# Altium footprint library Connector_JAE.PcbLib: 46 footprints (part 2 of 3)
Each footprint in its own frame and in the unit in brackets; x right, y up, seen from the top. Pads: shape width x height; smd on the part's side, far side on the other; paste and mask are expansions set on the pad; w line width, h text height; cw(c..) or ccw(c..) is an arc to the next point about the centre after c.
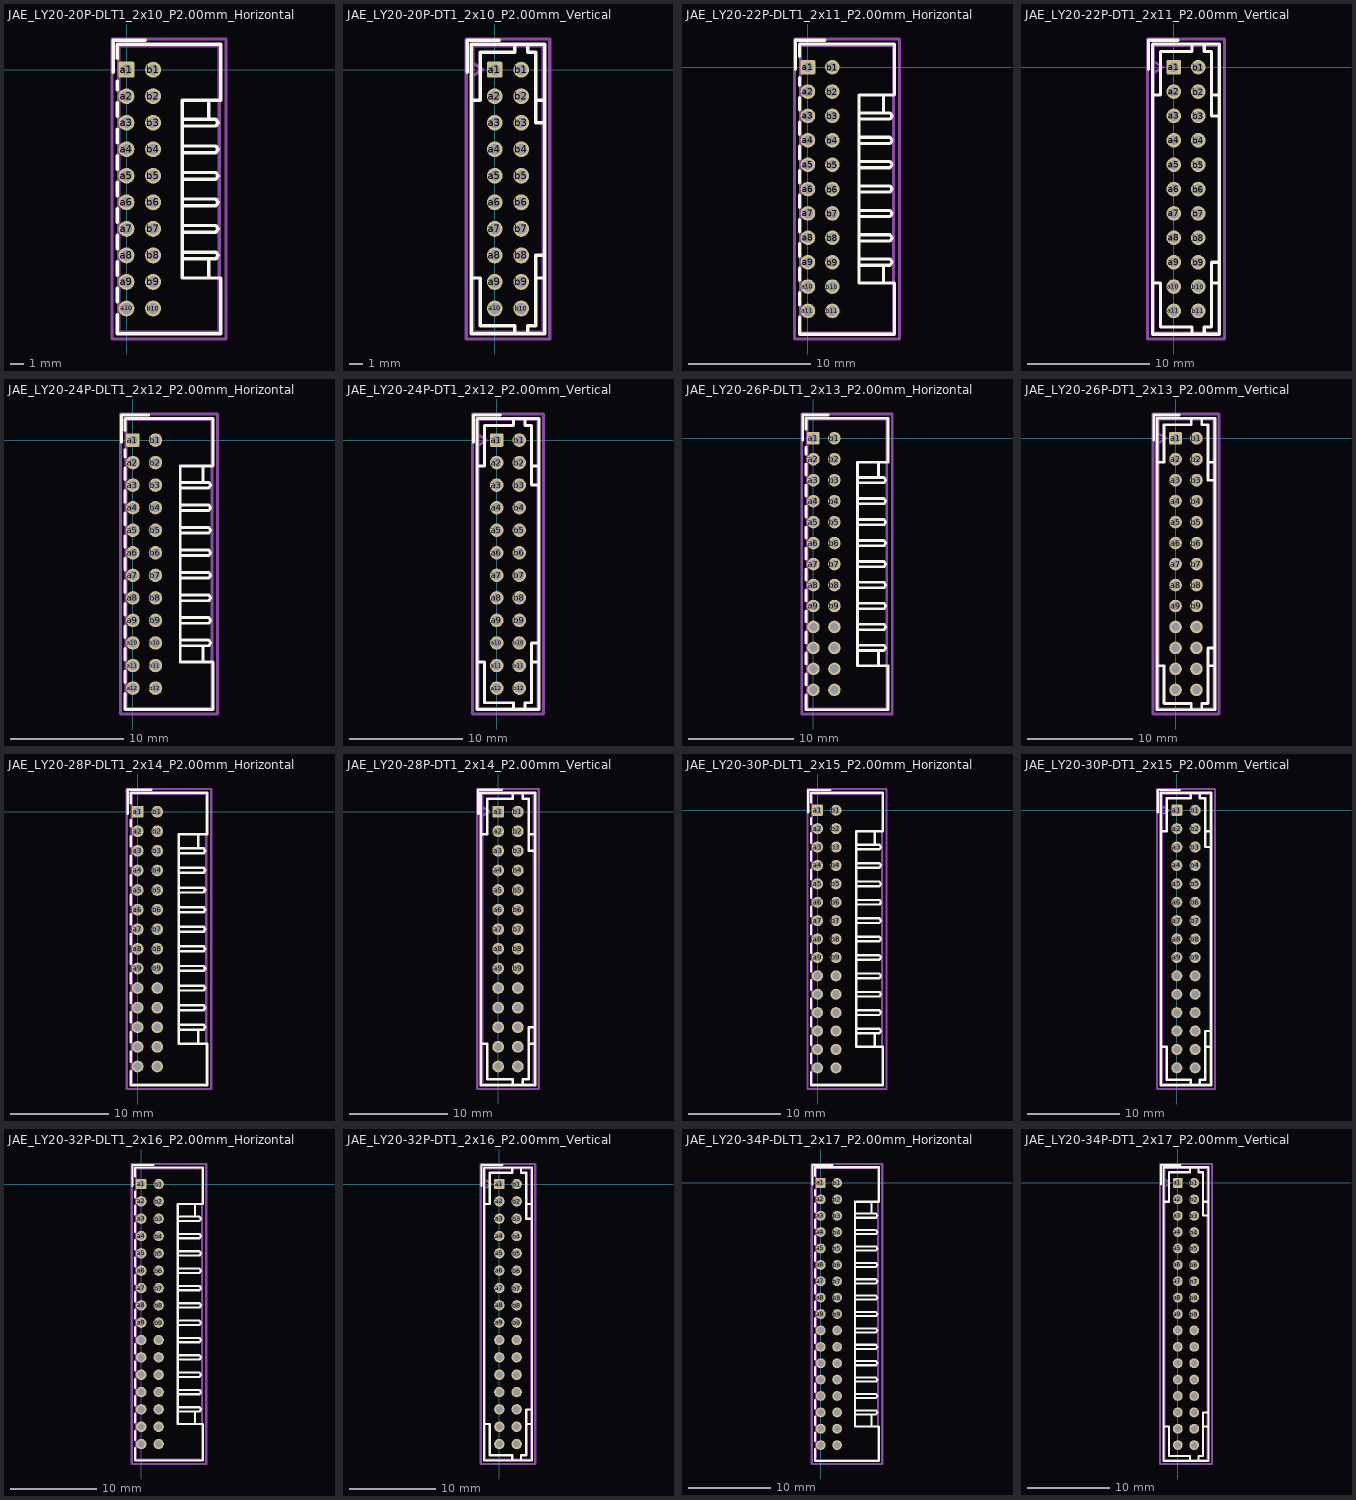
[diagram p1: the footprints below, top view; thin cyan lines are the x and y axes]

## JAE_LY20-20P-DLT1_2x10_P2.00mm_Horizontal [mm]
pads (20):
  rrect21% 1.2x1.2 hole 0.8: a1(0,0)
  round 1.2 hole 0.8: a2(0,-2) a3(0,-4) a4(0,-6) a5(0,-8) a6(0,-10) a7(0,-12) a8(0,-14) a9(0,-16) a10(0,-18) b1(2,0) b2(2,-2) b3(2,-4) b4(2,-6) b5(2,-8) b6(2,-10) b7(2,-12) b8(2,-14) b9(2,-16) b10(2,-18)
F.SilkS:
  lines w0.254: -1.01,-0.2 -1.01,2.21 1.4,2.21 ; -0.71,-18.485 -0.71,-19.91 7.11,-19.91 7.11,-15.7 4.2,-15.7 4.2,-9 4.2,-2.3 7.11,-2.3 7.11,1.91 -0.71,1.91 -0.71,0.86 ; -0.71,-17.515 -0.71,-16.485 ; -0.71,-15.515 -0.71,-14.485 ; -0.71,-13.515 -0.71,-12.485 ; -0.71,-11.515 -0.71,-10.485 ; -0.71,-9.515 -0.71,-8.485 ; -0.71,-7.515 -0.71,-6.485 ; -0.71,-5.515 -0.71,-4.485 ; -0.71,-3.515 -0.71,-2.485 ; -0.71,-1.515 -0.71,-0.86 ; 4.2,-14.25 6.733,-14.25 6.9,-14 6.733,-13.75 4.2,-13.75 ; 4.2,-12.25 6.733,-12.25 6.9,-12 6.733,-11.75 4.2,-11.75 ; 4.2,-10.25 6.733,-10.25 6.9,-10 6.733,-9.75 4.2,-9.75 ; 4.2,-8.25 6.733,-8.25 6.9,-8 6.733,-7.75 4.2,-7.75 ; 4.2,-6.25 6.733,-6.25 6.9,-6 6.733,-5.75 4.2,-5.75 ; 4.2,-4.25 6.733,-4.25 6.9,-4 6.733,-3.75 4.2,-3.75 ; 6.2,-15.7 6.2,-14.25 ; 6.2,-3.75 6.2,-2.3
Top Assembly:
  lines w0.254: -0.6,-0.5 0.107,0 -0.6,0.5 ; -0.6,-19.8 7,-19.8 7,1.8 -0.6,1.8 -0.6,-19.8
  text "'.Designator'" at -0.847,-19.94 h1
Top Courtyard:
  lines w0.254: -1.1,-20.3 7.5,-20.3 7.5,2.31 -1.1,2.31 -1.1,-20.3
Top Designator:
  text ".Designator" at -4.418,-9.503 h1.52

## JAE_LY20-20P-DT1_2x10_P2.00mm_Vertical [mm]
pads (20):
  rrect21% 1.2x1.2 hole 0.8: a1(0,0)
  round 1.2 hole 0.8: a2(0,-2) a3(0,-4) a4(0,-6) a5(0,-8) a6(0,-10) a7(0,-12) a8(0,-14) a9(0,-16) a10(0,-18) b1(2,0) b2(2,-2) b3(2,-4) b4(2,-6) b5(2,-8) b6(2,-10) b7(2,-12) b8(2,-14) b9(2,-16) b10(2,-18)
F.SilkS:
  lines w0.254: -2.06,-0.2 -2.06,2.21 0.35,2.21 ; -1.76,-15.7 -1.1,-15.7 -1.1,-19.3 1.5,-19.3 1.5,-19.91 ; -1.76,-2.3 -1.1,-2.3 -1.1,1.3 1.5,1.3 1.5,1.91 ; 2.5,-19.91 2.5,-19.3 3.1,-19.3 3.1,-14 3.76,-14 ; 2.5,1.91 2.5,1.3 3.1,1.3 3.1,-4 3.76,-4 ; 3.1,-15.7 3.76,-15.7 ; 3.1,-2.3 3.76,-2.3 ; -1.76,-19.91 3.76,-19.91 3.76,1.91 -1.76,1.91 -1.76,-19.91
Top Assembly:
  lines w0.254: -1.65,-0.5 -0.943,0 -1.65,0.5 ; -1.65,-19.8 3.65,-19.8 3.65,1.8 -1.65,1.8 -1.65,-19.8
  text "'.Designator'" at 3.79,-13.047 h1
Top Courtyard:
  lines w0.254: -2.15,-20.3 4.15,-20.3 4.15,2.31 -2.15,2.31 -2.15,-20.3
Top Designator:
  text ".Designator" at -6.618,-9.503 h1.52

## JAE_LY20-22P-DLT1_2x11_P2.00mm_Horizontal [mm]
pads (22):
  rrect21% 1.2x1.2 hole 0.8: a1(0,0)
  round 1.2 hole 0.8: a2(0,-2) a3(0,-4) a4(0,-6) a5(0,-8) a6(0,-10) a7(0,-12) a8(0,-14) a9(0,-16) a10(0,-18) a11(0,-20) b1(2,0) b2(2,-2) b3(2,-4) b4(2,-6) b5(2,-8) b6(2,-10) b7(2,-12) b8(2,-14) b9(2,-16) b10(2,-18) b11(2,-20)
F.SilkS:
  lines w0.254: -1.01,-0.2 -1.01,2.21 1.4,2.21 ; -0.71,-20.485 -0.71,-21.91 7.11,-21.91 7.11,-17.7 4.2,-17.7 4.2,-10 4.2,-2.3 7.11,-2.3 7.11,1.91 -0.71,1.91 -0.71,0.86 ; -0.71,-19.515 -0.71,-18.485 ; -0.71,-17.515 -0.71,-16.485 ; -0.71,-15.515 -0.71,-14.485 ; -0.71,-13.515 -0.71,-12.485 ; -0.71,-11.515 -0.71,-10.485 ; -0.71,-9.515 -0.71,-8.485 ; -0.71,-7.515 -0.71,-6.485 ; -0.71,-5.515 -0.71,-4.485 ; -0.71,-3.515 -0.71,-2.485 ; -0.71,-1.515 -0.71,-0.86 ; 4.2,-16.25 6.733,-16.25 6.9,-16 6.733,-15.75 4.2,-15.75 ; 4.2,-14.25 6.733,-14.25 6.9,-14 6.733,-13.75 4.2,-13.75 ; 4.2,-12.25 6.733,-12.25 6.9,-12 6.733,-11.75 4.2,-11.75 ; 4.2,-10.25 6.733,-10.25 6.9,-10 6.733,-9.75 4.2,-9.75 ; 4.2,-8.25 6.733,-8.25 6.9,-8 6.733,-7.75 4.2,-7.75 ; 4.2,-6.25 6.733,-6.25 6.9,-6 6.733,-5.75 4.2,-5.75 ; 4.2,-4.25 6.733,-4.25 6.9,-4 6.733,-3.75 4.2,-3.75 ; 6.2,-17.7 6.2,-16.25 ; 6.2,-3.75 6.2,-2.3
Top Assembly:
  lines w0.254: -0.6,-0.5 0.107,0 -0.6,0.5 ; -0.6,-21.8 7,-21.8 7,1.8 -0.6,1.8 -0.6,-21.8
  text "'.Designator'" at -0.847,-21.94 h1
Top Courtyard:
  lines w0.254: -1.1,-22.3 7.5,-22.3 7.5,2.31 -1.1,2.31 -1.1,-22.3
Top Designator:
  text ".Designator" at -4.418,-10.503 h1.52

## JAE_LY20-22P-DT1_2x11_P2.00mm_Vertical [mm]
pads (22):
  rrect21% 1.2x1.2 hole 0.8: a1(0,0)
  round 1.2 hole 0.8: a2(0,-2) a3(0,-4) a4(0,-6) a5(0,-8) a6(0,-10) a7(0,-12) a8(0,-14) a9(0,-16) a10(0,-18) a11(0,-20) b1(2,0) b2(2,-2) b3(2,-4) b4(2,-6) b5(2,-8) b6(2,-10) b7(2,-12) b8(2,-14) b9(2,-16) b10(2,-18) b11(2,-20)
F.SilkS:
  lines w0.254: -2.06,-0.2 -2.06,2.21 0.35,2.21 ; -1.76,-17.7 -1.1,-17.7 -1.1,-21.3 1.5,-21.3 1.5,-21.91 ; -1.76,-2.3 -1.1,-2.3 -1.1,1.3 1.5,1.3 1.5,1.91 ; 2.5,-21.91 2.5,-21.3 3.1,-21.3 3.1,-16 3.76,-16 ; 2.5,1.91 2.5,1.3 3.1,1.3 3.1,-4 3.76,-4 ; 3.1,-17.7 3.76,-17.7 ; 3.1,-2.3 3.76,-2.3 ; -1.76,-21.91 3.76,-21.91 3.76,1.91 -1.76,1.91 -1.76,-21.91
Top Assembly:
  lines w0.254: -1.65,-0.5 -0.943,0 -1.65,0.5 ; -1.65,-21.8 3.65,-21.8 3.65,1.8 -1.65,1.8 -1.65,-21.8
  text "'.Designator'" at 3.79,-14.047 h1
Top Courtyard:
  lines w0.254: -2.15,-22.3 4.15,-22.3 4.15,2.31 -2.15,2.31 -2.15,-22.3
Top Designator:
  text ".Designator" at -6.618,-10.503 h1.52

## JAE_LY20-24P-DLT1_2x12_P2.00mm_Horizontal [mm]
pads (24):
  rrect21% 1.2x1.2 hole 0.8: a1(0,0)
  round 1.2 hole 0.8: a2(0,-2) a3(0,-4) a4(0,-6) a5(0,-8) a6(0,-10) a7(0,-12) a8(0,-14) a9(0,-16) a10(0,-18) a11(0,-20) a12(0,-22) b1(2,0) b2(2,-2) b3(2,-4) b4(2,-6) b5(2,-8) b6(2,-10) b7(2,-12) b8(2,-14) b9(2,-16) b10(2,-18) b11(2,-20) b12(2,-22)
F.SilkS:
  lines w0.254: -1.01,-0.2 -1.01,2.21 1.4,2.21 ; -0.71,-22.485 -0.71,-23.91 7.11,-23.91 7.11,-19.7 4.2,-19.7 4.2,-11 4.2,-2.3 7.11,-2.3 7.11,1.91 -0.71,1.91 -0.71,0.86 ; -0.71,-21.515 -0.71,-20.485 ; -0.71,-19.515 -0.71,-18.485 ; -0.71,-17.515 -0.71,-16.485 ; -0.71,-15.515 -0.71,-14.485 ; -0.71,-13.515 -0.71,-12.485 ; -0.71,-11.515 -0.71,-10.485 ; -0.71,-9.515 -0.71,-8.485 ; -0.71,-7.515 -0.71,-6.485 ; -0.71,-5.515 -0.71,-4.485 ; -0.71,-3.515 -0.71,-2.485 ; -0.71,-1.515 -0.71,-0.86 ; 4.2,-18.25 6.733,-18.25 6.9,-18 6.733,-17.75 4.2,-17.75 ; 4.2,-16.25 6.733,-16.25 6.9,-16 6.733,-15.75 4.2,-15.75 ; 4.2,-14.25 6.733,-14.25 6.9,-14 6.733,-13.75 4.2,-13.75 ; 4.2,-12.25 6.733,-12.25 6.9,-12 6.733,-11.75 4.2,-11.75 ; 4.2,-10.25 6.733,-10.25 6.9,-10 6.733,-9.75 4.2,-9.75 ; 4.2,-8.25 6.733,-8.25 6.9,-8 6.733,-7.75 4.2,-7.75 ; 4.2,-6.25 6.733,-6.25 6.9,-6 6.733,-5.75 4.2,-5.75 ; 4.2,-4.25 6.733,-4.25 6.9,-4 6.733,-3.75 4.2,-3.75 ; 6.2,-19.7 6.2,-18.25 ; 6.2,-3.75 6.2,-2.3
Top Assembly:
  lines w0.254: -0.6,-0.5 0.107,0 -0.6,0.5 ; -0.6,-23.8 7,-23.8 7,1.8 -0.6,1.8 -0.6,-23.8
  text "'.Designator'" at -0.847,-23.94 h1
Top Courtyard:
  lines w0.254: -1.1,-24.3 7.5,-24.3 7.5,2.31 -1.1,2.31 -1.1,-24.3
Top Designator:
  text ".Designator" at -4.418,-11.503 h1.52

## JAE_LY20-24P-DT1_2x12_P2.00mm_Vertical [mm]
pads (24):
  rrect21% 1.2x1.2 hole 0.8: a1(0,0)
  round 1.2 hole 0.8: a2(0,-2) a3(0,-4) a4(0,-6) a5(0,-8) a6(0,-10) a7(0,-12) a8(0,-14) a9(0,-16) a10(0,-18) a11(0,-20) a12(0,-22) b1(2,0) b2(2,-2) b3(2,-4) b4(2,-6) b5(2,-8) b6(2,-10) b7(2,-12) b8(2,-14) b9(2,-16) b10(2,-18) b11(2,-20) b12(2,-22)
F.SilkS:
  lines w0.254: -2.06,-0.2 -2.06,2.21 0.35,2.21 ; -1.76,-19.7 -1.1,-19.7 -1.1,-23.3 1.5,-23.3 1.5,-23.91 ; -1.76,-2.3 -1.1,-2.3 -1.1,1.3 1.5,1.3 1.5,1.91 ; 2.5,-23.91 2.5,-23.3 3.1,-23.3 3.1,-18 3.76,-18 ; 2.5,1.91 2.5,1.3 3.1,1.3 3.1,-4 3.76,-4 ; 3.1,-19.7 3.76,-19.7 ; 3.1,-2.3 3.76,-2.3 ; -1.76,-23.91 3.76,-23.91 3.76,1.91 -1.76,1.91 -1.76,-23.91
Top Assembly:
  lines w0.254: -1.65,-0.5 -0.943,0 -1.65,0.5 ; -1.65,-23.8 3.65,-23.8 3.65,1.8 -1.65,1.8 -1.65,-23.8
  text "'.Designator'" at 3.79,-15.047 h1
Top Courtyard:
  lines w0.254: -2.15,-24.3 4.15,-24.3 4.15,2.31 -2.15,2.31 -2.15,-24.3
Top Designator:
  text ".Designator" at -6.618,-11.503 h1.52

## JAE_LY20-26P-DLT1_2x13_P2.00mm_Horizontal [mm]
pads (26):
  rrect21% 1.2x1.2 hole 0.8: a1(0,0)
  round 1.2 hole 0.8: a2(0,-2) a3(0,-4) a4(0,-6) a5(0,-8) a6(0,-10) a7(0,-12) a8(0,-14) a9(0,-16) a10(0,-18) a11(0,-20) a12(0,-22) a13(0,-24) b1(2,0) b2(2,-2) b3(2,-4) b4(2,-6) b5(2,-8) b6(2,-10) b7(2,-12) b8(2,-14) b9(2,-16) b10(2,-18) b11(2,-20) b12(2,-22) b13(2,-24)
F.SilkS:
  lines w0.254: -1.01,-0.2 -1.01,2.21 1.4,2.21 ; -0.71,-24.485 -0.71,-25.91 7.11,-25.91 7.11,-21.7 4.2,-21.7 4.2,-12 4.2,-2.3 7.11,-2.3 7.11,1.91 -0.71,1.91 -0.71,0.86 ; -0.71,-23.515 -0.71,-22.485 ; -0.71,-21.515 -0.71,-20.485 ; -0.71,-19.515 -0.71,-18.485 ; -0.71,-17.515 -0.71,-16.485 ; -0.71,-15.515 -0.71,-14.485 ; -0.71,-13.515 -0.71,-12.485 ; -0.71,-11.515 -0.71,-10.485 ; -0.71,-9.515 -0.71,-8.485 ; -0.71,-7.515 -0.71,-6.485 ; -0.71,-5.515 -0.71,-4.485 ; -0.71,-3.515 -0.71,-2.485 ; -0.71,-1.515 -0.71,-0.86 ; 4.2,-20.25 6.733,-20.25 6.9,-20 6.733,-19.75 4.2,-19.75 ; 4.2,-18.25 6.733,-18.25 6.9,-18 6.733,-17.75 4.2,-17.75 ; 4.2,-16.25 6.733,-16.25 6.9,-16 6.733,-15.75 4.2,-15.75 ; 4.2,-14.25 6.733,-14.25 6.9,-14 6.733,-13.75 4.2,-13.75 ; 4.2,-12.25 6.733,-12.25 6.9,-12 6.733,-11.75 4.2,-11.75 ; 4.2,-10.25 6.733,-10.25 6.9,-10 6.733,-9.75 4.2,-9.75 ; 4.2,-8.25 6.733,-8.25 6.9,-8 6.733,-7.75 4.2,-7.75 ; 4.2,-6.25 6.733,-6.25 6.9,-6 6.733,-5.75 4.2,-5.75 ; 4.2,-4.25 6.733,-4.25 6.9,-4 6.733,-3.75 4.2,-3.75 ; 6.2,-21.7 6.2,-20.25 ; 6.2,-3.75 6.2,-2.3
Top Assembly:
  lines w0.254: -0.6,-0.5 0.107,0 -0.6,0.5 ; -0.6,-25.8 7,-25.8 7,1.8 -0.6,1.8 -0.6,-25.8
  text "'.Designator'" at -0.847,-25.94 h1
Top Courtyard:
  lines w0.254: -1.1,-26.3 7.5,-26.3 7.5,2.31 -1.1,2.31 -1.1,-26.3
Top Designator:
  text ".Designator" at -4.418,-12.503 h1.52

## JAE_LY20-26P-DT1_2x13_P2.00mm_Vertical [mm]
pads (26):
  rrect21% 1.2x1.2 hole 0.8: a1(0,0)
  round 1.2 hole 0.8: a2(0,-2) a3(0,-4) a4(0,-6) a5(0,-8) a6(0,-10) a7(0,-12) a8(0,-14) a9(0,-16) a10(0,-18) a11(0,-20) a12(0,-22) a13(0,-24) b1(2,0) b2(2,-2) b3(2,-4) b4(2,-6) b5(2,-8) b6(2,-10) b7(2,-12) b8(2,-14) b9(2,-16) b10(2,-18) b11(2,-20) b12(2,-22) b13(2,-24)
F.SilkS:
  lines w0.254: -2.06,-0.2 -2.06,2.21 0.35,2.21 ; -1.76,-21.7 -1.1,-21.7 -1.1,-25.3 1.5,-25.3 1.5,-25.91 ; -1.76,-2.3 -1.1,-2.3 -1.1,1.3 1.5,1.3 1.5,1.91 ; 2.5,-25.91 2.5,-25.3 3.1,-25.3 3.1,-20 3.76,-20 ; 2.5,1.91 2.5,1.3 3.1,1.3 3.1,-4 3.76,-4 ; 3.1,-21.7 3.76,-21.7 ; 3.1,-2.3 3.76,-2.3 ; -1.76,-25.91 3.76,-25.91 3.76,1.91 -1.76,1.91 -1.76,-25.91
Top Assembly:
  lines w0.254: -1.65,-0.5 -0.943,0 -1.65,0.5 ; -1.65,-25.8 3.65,-25.8 3.65,1.8 -1.65,1.8 -1.65,-25.8
  text "'.Designator'" at 3.79,-16.047 h1
Top Courtyard:
  lines w0.254: -2.15,-26.3 4.15,-26.3 4.15,2.31 -2.15,2.31 -2.15,-26.3
Top Designator:
  text ".Designator" at -6.618,-12.503 h1.52

## JAE_LY20-28P-DLT1_2x14_P2.00mm_Horizontal [mm]
pads (28):
  rrect21% 1.2x1.2 hole 0.8: a1(0,0)
  round 1.2 hole 0.8: a2(0,-2) a3(0,-4) a4(0,-6) a5(0,-8) a6(0,-10) a7(0,-12) a8(0,-14) a9(0,-16) a10(0,-18) a11(0,-20) a12(0,-22) a13(0,-24) a14(0,-26) b1(2,0) b2(2,-2) b3(2,-4) b4(2,-6) b5(2,-8) b6(2,-10) b7(2,-12) b8(2,-14) b9(2,-16) b10(2,-18) b11(2,-20) b12(2,-22) b13(2,-24) b14(2,-26)
F.SilkS:
  lines w0.254: -1.01,-0.2 -1.01,2.21 1.4,2.21 ; -0.71,-26.485 -0.71,-27.91 7.11,-27.91 7.11,-23.7 4.2,-23.7 4.2,-13 4.2,-2.3 7.11,-2.3 7.11,1.91 -0.71,1.91 -0.71,0.86 ; -0.71,-25.515 -0.71,-24.485 ; -0.71,-23.515 -0.71,-22.485 ; -0.71,-21.515 -0.71,-20.485 ; -0.71,-19.515 -0.71,-18.485 ; -0.71,-17.515 -0.71,-16.485 ; -0.71,-15.515 -0.71,-14.485 ; -0.71,-13.515 -0.71,-12.485 ; -0.71,-11.515 -0.71,-10.485 ; -0.71,-9.515 -0.71,-8.485 ; -0.71,-7.515 -0.71,-6.485 ; -0.71,-5.515 -0.71,-4.485 ; -0.71,-3.515 -0.71,-2.485 ; -0.71,-1.515 -0.71,-0.86 ; 4.2,-22.25 6.733,-22.25 6.9,-22 6.733,-21.75 4.2,-21.75 ; 4.2,-20.25 6.733,-20.25 6.9,-20 6.733,-19.75 4.2,-19.75 ; 4.2,-18.25 6.733,-18.25 6.9,-18 6.733,-17.75 4.2,-17.75 ; 4.2,-16.25 6.733,-16.25 6.9,-16 6.733,-15.75 4.2,-15.75 ; 4.2,-14.25 6.733,-14.25 6.9,-14 6.733,-13.75 4.2,-13.75 ; 4.2,-12.25 6.733,-12.25 6.9,-12 6.733,-11.75 4.2,-11.75 ; 4.2,-10.25 6.733,-10.25 6.9,-10 6.733,-9.75 4.2,-9.75 ; 4.2,-8.25 6.733,-8.25 6.9,-8 6.733,-7.75 4.2,-7.75 ; 4.2,-6.25 6.733,-6.25 6.9,-6 6.733,-5.75 4.2,-5.75 ; 4.2,-4.25 6.733,-4.25 6.9,-4 6.733,-3.75 4.2,-3.75 ; 6.2,-23.7 6.2,-22.25 ; 6.2,-3.75 6.2,-2.3
Top Assembly:
  lines w0.254: -0.6,-0.5 0.107,0 -0.6,0.5 ; -0.6,-27.8 7,-27.8 7,1.8 -0.6,1.8 -0.6,-27.8
  text "'.Designator'" at -0.847,-27.94 h1
Top Courtyard:
  lines w0.254: -1.1,-28.3 7.5,-28.3 7.5,2.31 -1.1,2.31 -1.1,-28.3
Top Designator:
  text ".Designator" at -4.418,-13.503 h1.52

## JAE_LY20-28P-DT1_2x14_P2.00mm_Vertical [mm]
pads (28):
  rrect21% 1.2x1.2 hole 0.8: a1(0,0)
  round 1.2 hole 0.8: a2(0,-2) a3(0,-4) a4(0,-6) a5(0,-8) a6(0,-10) a7(0,-12) a8(0,-14) a9(0,-16) a10(0,-18) a11(0,-20) a12(0,-22) a13(0,-24) a14(0,-26) b1(2,0) b2(2,-2) b3(2,-4) b4(2,-6) b5(2,-8) b6(2,-10) b7(2,-12) b8(2,-14) b9(2,-16) b10(2,-18) b11(2,-20) b12(2,-22) b13(2,-24) b14(2,-26)
F.SilkS:
  lines w0.254: -2.06,-0.2 -2.06,2.21 0.35,2.21 ; -1.76,-23.7 -1.1,-23.7 -1.1,-27.3 1.5,-27.3 1.5,-27.91 ; -1.76,-2.3 -1.1,-2.3 -1.1,1.3 1.5,1.3 1.5,1.91 ; 2.5,-27.91 2.5,-27.3 3.1,-27.3 3.1,-22 3.76,-22 ; 2.5,1.91 2.5,1.3 3.1,1.3 3.1,-4 3.76,-4 ; 3.1,-23.7 3.76,-23.7 ; 3.1,-2.3 3.76,-2.3 ; -1.76,-27.91 3.76,-27.91 3.76,1.91 -1.76,1.91 -1.76,-27.91
Top Assembly:
  lines w0.254: -1.65,-0.5 -0.943,0 -1.65,0.5 ; -1.65,-27.8 3.65,-27.8 3.65,1.8 -1.65,1.8 -1.65,-27.8
  text "'.Designator'" at 3.79,-17.047 h1
Top Courtyard:
  lines w0.254: -2.15,-28.3 4.15,-28.3 4.15,2.31 -2.15,2.31 -2.15,-28.3
Top Designator:
  text ".Designator" at -6.618,-13.503 h1.52

## JAE_LY20-30P-DLT1_2x15_P2.00mm_Horizontal [mm]
pads (30):
  rrect21% 1.2x1.2 hole 0.8: a1(0,0)
  round 1.2 hole 0.8: a2(0,-2) a3(0,-4) a4(0,-6) a5(0,-8) a6(0,-10) a7(0,-12) a8(0,-14) a9(0,-16) a10(0,-18) a11(0,-20) a12(0,-22) a13(0,-24) a14(0,-26) a15(0,-28) b1(2,0) b2(2,-2) b3(2,-4) b4(2,-6) b5(2,-8) b6(2,-10) b7(2,-12) b8(2,-14) b9(2,-16) b10(2,-18) b11(2,-20) b12(2,-22) b13(2,-24) b14(2,-26) b15(2,-28)
F.SilkS:
  lines w0.254: -1.01,-0.2 -1.01,2.21 1.4,2.21 ; -0.71,-28.485 -0.71,-29.91 7.11,-29.91 7.11,-25.7 4.2,-25.7 4.2,-14 4.2,-2.3 7.11,-2.3 7.11,1.91 -0.71,1.91 -0.71,0.86 ; -0.71,-27.515 -0.71,-26.485 ; -0.71,-25.515 -0.71,-24.485 ; -0.71,-23.515 -0.71,-22.485 ; -0.71,-21.515 -0.71,-20.485 ; -0.71,-19.515 -0.71,-18.485 ; -0.71,-17.515 -0.71,-16.485 ; -0.71,-15.515 -0.71,-14.485 ; -0.71,-13.515 -0.71,-12.485 ; -0.71,-11.515 -0.71,-10.485 ; -0.71,-9.515 -0.71,-8.485 ; -0.71,-7.515 -0.71,-6.485 ; -0.71,-5.515 -0.71,-4.485 ; -0.71,-3.515 -0.71,-2.485 ; -0.71,-1.515 -0.71,-0.86 ; 4.2,-24.25 6.733,-24.25 6.9,-24 6.733,-23.75 4.2,-23.75 ; 4.2,-22.25 6.733,-22.25 6.9,-22 6.733,-21.75 4.2,-21.75 ; 4.2,-20.25 6.733,-20.25 6.9,-20 6.733,-19.75 4.2,-19.75 ; 4.2,-18.25 6.733,-18.25 6.9,-18 6.733,-17.75 4.2,-17.75 ; 4.2,-16.25 6.733,-16.25 6.9,-16 6.733,-15.75 4.2,-15.75 ; 4.2,-14.25 6.733,-14.25 6.9,-14 6.733,-13.75 4.2,-13.75 ; 4.2,-12.25 6.733,-12.25 6.9,-12 6.733,-11.75 4.2,-11.75 ; 4.2,-10.25 6.733,-10.25 6.9,-10 6.733,-9.75 4.2,-9.75 ; 4.2,-8.25 6.733,-8.25 6.9,-8 6.733,-7.75 4.2,-7.75 ; 4.2,-6.25 6.733,-6.25 6.9,-6 6.733,-5.75 4.2,-5.75 ; 4.2,-4.25 6.733,-4.25 6.9,-4 6.733,-3.75 4.2,-3.75 ; 6.2,-25.7 6.2,-24.25 ; 6.2,-3.75 6.2,-2.3
Top Assembly:
  lines w0.254: -0.6,-0.5 0.107,0 -0.6,0.5 ; -0.6,-29.8 7,-29.8 7,1.8 -0.6,1.8 -0.6,-29.8
  text "'.Designator'" at -0.847,-29.94 h1
Top Courtyard:
  lines w0.254: -1.1,-30.3 7.5,-30.3 7.5,2.31 -1.1,2.31 -1.1,-30.3
Top Designator:
  text ".Designator" at -4.418,-14.503 h1.52

## JAE_LY20-30P-DT1_2x15_P2.00mm_Vertical [mm]
pads (30):
  rrect21% 1.2x1.2 hole 0.8: a1(0,0)
  round 1.2 hole 0.8: a2(0,-2) a3(0,-4) a4(0,-6) a5(0,-8) a6(0,-10) a7(0,-12) a8(0,-14) a9(0,-16) a10(0,-18) a11(0,-20) a12(0,-22) a13(0,-24) a14(0,-26) a15(0,-28) b1(2,0) b2(2,-2) b3(2,-4) b4(2,-6) b5(2,-8) b6(2,-10) b7(2,-12) b8(2,-14) b9(2,-16) b10(2,-18) b11(2,-20) b12(2,-22) b13(2,-24) b14(2,-26) b15(2,-28)
F.SilkS:
  lines w0.254: -2.06,-0.2 -2.06,2.21 0.35,2.21 ; -1.76,-25.7 -1.1,-25.7 -1.1,-29.3 1.5,-29.3 1.5,-29.91 ; -1.76,-2.3 -1.1,-2.3 -1.1,1.3 1.5,1.3 1.5,1.91 ; 2.5,-29.91 2.5,-29.3 3.1,-29.3 3.1,-24 3.76,-24 ; 2.5,1.91 2.5,1.3 3.1,1.3 3.1,-4 3.76,-4 ; 3.1,-25.7 3.76,-25.7 ; 3.1,-2.3 3.76,-2.3 ; -1.76,-29.91 3.76,-29.91 3.76,1.91 -1.76,1.91 -1.76,-29.91
Top Assembly:
  lines w0.254: -1.65,-0.5 -0.943,0 -1.65,0.5 ; -1.65,-29.8 3.65,-29.8 3.65,1.8 -1.65,1.8 -1.65,-29.8
  text "'.Designator'" at 3.79,-18.047 h1
Top Courtyard:
  lines w0.254: -2.15,-30.3 4.15,-30.3 4.15,2.31 -2.15,2.31 -2.15,-30.3
Top Designator:
  text ".Designator" at -6.618,-14.503 h1.52

## JAE_LY20-32P-DLT1_2x16_P2.00mm_Horizontal [mm]
pads (32):
  rrect21% 1.2x1.2 hole 0.8: a1(0,0)
  round 1.2 hole 0.8: a2(0,-2) a3(0,-4) a4(0,-6) a5(0,-8) a6(0,-10) a7(0,-12) a8(0,-14) a9(0,-16) a10(0,-18) a11(0,-20) a12(0,-22) a13(0,-24) a14(0,-26) a15(0,-28) a16(0,-30) b1(2,0) b2(2,-2) b3(2,-4) b4(2,-6) b5(2,-8) b6(2,-10) b7(2,-12) b8(2,-14) b9(2,-16) b10(2,-18) b11(2,-20) b12(2,-22) b13(2,-24) b14(2,-26) b15(2,-28) b16(2,-30)
F.SilkS:
  lines w0.254: -1.01,-0.2 -1.01,2.21 1.4,2.21 ; -0.71,-30.485 -0.71,-31.91 7.11,-31.91 7.11,-27.7 4.2,-27.7 4.2,-15 4.2,-2.3 7.11,-2.3 7.11,1.91 -0.71,1.91 -0.71,0.86 ; -0.71,-29.515 -0.71,-28.485 ; -0.71,-27.515 -0.71,-26.485 ; -0.71,-25.515 -0.71,-24.485 ; -0.71,-23.515 -0.71,-22.485 ; -0.71,-21.515 -0.71,-20.485 ; -0.71,-19.515 -0.71,-18.485 ; -0.71,-17.515 -0.71,-16.485 ; -0.71,-15.515 -0.71,-14.485 ; -0.71,-13.515 -0.71,-12.485 ; -0.71,-11.515 -0.71,-10.485 ; -0.71,-9.515 -0.71,-8.485 ; -0.71,-7.515 -0.71,-6.485 ; -0.71,-5.515 -0.71,-4.485 ; -0.71,-3.515 -0.71,-2.485 ; -0.71,-1.515 -0.71,-0.86 ; 4.2,-26.25 6.733,-26.25 6.9,-26 6.733,-25.75 4.2,-25.75 ; 4.2,-24.25 6.733,-24.25 6.9,-24 6.733,-23.75 4.2,-23.75 ; 4.2,-22.25 6.733,-22.25 6.9,-22 6.733,-21.75 4.2,-21.75 ; 4.2,-20.25 6.733,-20.25 6.9,-20 6.733,-19.75 4.2,-19.75 ; 4.2,-18.25 6.733,-18.25 6.9,-18 6.733,-17.75 4.2,-17.75 ; 4.2,-16.25 6.733,-16.25 6.9,-16 6.733,-15.75 4.2,-15.75 ; 4.2,-14.25 6.733,-14.25 6.9,-14 6.733,-13.75 4.2,-13.75 ; 4.2,-12.25 6.733,-12.25 6.9,-12 6.733,-11.75 4.2,-11.75 ; 4.2,-10.25 6.733,-10.25 6.9,-10 6.733,-9.75 4.2,-9.75 ; 4.2,-8.25 6.733,-8.25 6.9,-8 6.733,-7.75 4.2,-7.75 ; 4.2,-6.25 6.733,-6.25 6.9,-6 6.733,-5.75 4.2,-5.75 ; 4.2,-4.25 6.733,-4.25 6.9,-4 6.733,-3.75 4.2,-3.75 ; 6.2,-27.7 6.2,-26.25 ; 6.2,-3.75 6.2,-2.3
Top Assembly:
  lines w0.254: -0.6,-0.5 0.107,0 -0.6,0.5 ; -0.6,-31.8 7,-31.8 7,1.8 -0.6,1.8 -0.6,-31.8
  text "'.Designator'" at -0.847,-31.94 h1
Top Courtyard:
  lines w0.254: -1.1,-32.3 7.5,-32.3 7.5,2.31 -1.1,2.31 -1.1,-32.3
Top Designator:
  text ".Designator" at -4.418,-15.503 h1.52

## JAE_LY20-32P-DT1_2x16_P2.00mm_Vertical [mm]
pads (32):
  rrect21% 1.2x1.2 hole 0.8: a1(0,0)
  round 1.2 hole 0.8: a2(0,-2) a3(0,-4) a4(0,-6) a5(0,-8) a6(0,-10) a7(0,-12) a8(0,-14) a9(0,-16) a10(0,-18) a11(0,-20) a12(0,-22) a13(0,-24) a14(0,-26) a15(0,-28) a16(0,-30) b1(2,0) b2(2,-2) b3(2,-4) b4(2,-6) b5(2,-8) b6(2,-10) b7(2,-12) b8(2,-14) b9(2,-16) b10(2,-18) b11(2,-20) b12(2,-22) b13(2,-24) b14(2,-26) b15(2,-28) b16(2,-30)
F.SilkS:
  lines w0.254: -2.06,-0.2 -2.06,2.21 0.35,2.21 ; -1.76,-27.7 -1.1,-27.7 -1.1,-31.3 1.5,-31.3 1.5,-31.91 ; -1.76,-2.3 -1.1,-2.3 -1.1,1.3 1.5,1.3 1.5,1.91 ; 2.5,-31.91 2.5,-31.3 3.1,-31.3 3.1,-26 3.76,-26 ; 2.5,1.91 2.5,1.3 3.1,1.3 3.1,-4 3.76,-4 ; 3.1,-27.7 3.76,-27.7 ; 3.1,-2.3 3.76,-2.3 ; -1.76,-31.91 3.76,-31.91 3.76,1.91 -1.76,1.91 -1.76,-31.91
Top Assembly:
  lines w0.254: -1.65,-0.5 -0.943,0 -1.65,0.5 ; -1.65,-31.8 3.65,-31.8 3.65,1.8 -1.65,1.8 -1.65,-31.8
  text "'.Designator'" at 3.79,-19.047 h1
Top Courtyard:
  lines w0.254: -2.15,-32.3 4.15,-32.3 4.15,2.31 -2.15,2.31 -2.15,-32.3
Top Designator:
  text ".Designator" at -6.618,-15.503 h1.52

## JAE_LY20-34P-DLT1_2x17_P2.00mm_Horizontal [mm]
pads (34):
  rrect21% 1.2x1.2 hole 0.8: a1(0,0)
  round 1.2 hole 0.8: a2(0,-2) a3(0,-4) a4(0,-6) a5(0,-8) a6(0,-10) a7(0,-12) a8(0,-14) a9(0,-16) a10(0,-18) a11(0,-20) a12(0,-22) a13(0,-24) a14(0,-26) a15(0,-28) a16(0,-30) a17(0,-32) b1(2,0) b2(2,-2) b3(2,-4) b4(2,-6) b5(2,-8) b6(2,-10) b7(2,-12) b8(2,-14) b9(2,-16) b10(2,-18) b11(2,-20) b12(2,-22) b13(2,-24) b14(2,-26) b15(2,-28) b16(2,-30) b17(2,-32)
F.SilkS:
  lines w0.254: -1.01,-0.2 -1.01,2.21 1.4,2.21 ; -0.71,-32.485 -0.71,-33.91 7.11,-33.91 7.11,-29.7 4.2,-29.7 4.2,-16 4.2,-2.3 7.11,-2.3 7.11,1.91 -0.71,1.91 -0.71,0.86 ; -0.71,-31.515 -0.71,-30.485 ; -0.71,-29.515 -0.71,-28.485 ; -0.71,-27.515 -0.71,-26.485 ; -0.71,-25.515 -0.71,-24.485 ; -0.71,-23.515 -0.71,-22.485 ; -0.71,-21.515 -0.71,-20.485 ; -0.71,-19.515 -0.71,-18.485 ; -0.71,-17.515 -0.71,-16.485 ; -0.71,-15.515 -0.71,-14.485 ; -0.71,-13.515 -0.71,-12.485 ; -0.71,-11.515 -0.71,-10.485 ; -0.71,-9.515 -0.71,-8.485 ; -0.71,-7.515 -0.71,-6.485 ; -0.71,-5.515 -0.71,-4.485 ; -0.71,-3.515 -0.71,-2.485 ; -0.71,-1.515 -0.71,-0.86 ; 4.2,-28.25 6.733,-28.25 6.9,-28 6.733,-27.75 4.2,-27.75 ; 4.2,-26.25 6.733,-26.25 6.9,-26 6.733,-25.75 4.2,-25.75 ; 4.2,-24.25 6.733,-24.25 6.9,-24 6.733,-23.75 4.2,-23.75 ; 4.2,-22.25 6.733,-22.25 6.9,-22 6.733,-21.75 4.2,-21.75 ; 4.2,-20.25 6.733,-20.25 6.9,-20 6.733,-19.75 4.2,-19.75 ; 4.2,-18.25 6.733,-18.25 6.9,-18 6.733,-17.75 4.2,-17.75 ; 4.2,-16.25 6.733,-16.25 6.9,-16 6.733,-15.75 4.2,-15.75 ; 4.2,-14.25 6.733,-14.25 6.9,-14 6.733,-13.75 4.2,-13.75 ; 4.2,-12.25 6.733,-12.25 6.9,-12 6.733,-11.75 4.2,-11.75 ; 4.2,-10.25 6.733,-10.25 6.9,-10 6.733,-9.75 4.2,-9.75 ; 4.2,-8.25 6.733,-8.25 6.9,-8 6.733,-7.75 4.2,-7.75 ; 4.2,-6.25 6.733,-6.25 6.9,-6 6.733,-5.75 4.2,-5.75 ; 4.2,-4.25 6.733,-4.25 6.9,-4 6.733,-3.75 4.2,-3.75 ; 6.2,-29.7 6.2,-28.25 ; 6.2,-3.75 6.2,-2.3
Top Assembly:
  lines w0.254: -0.6,-0.5 0.107,0 -0.6,0.5 ; -0.6,-33.8 7,-33.8 7,1.8 -0.6,1.8 -0.6,-33.8
  text "'.Designator'" at -0.847,-33.94 h1
Top Courtyard:
  lines w0.254: -1.1,-34.3 7.5,-34.3 7.5,2.31 -1.1,2.31 -1.1,-34.3
Top Designator:
  text ".Designator" at -4.418,-16.503 h1.52

## JAE_LY20-34P-DT1_2x17_P2.00mm_Vertical [mm]
pads (34):
  rrect21% 1.2x1.2 hole 0.8: a1(0,0)
  round 1.2 hole 0.8: a2(0,-2) a3(0,-4) a4(0,-6) a5(0,-8) a6(0,-10) a7(0,-12) a8(0,-14) a9(0,-16) a10(0,-18) a11(0,-20) a12(0,-22) a13(0,-24) a14(0,-26) a15(0,-28) a16(0,-30) a17(0,-32) b1(2,0) b2(2,-2) b3(2,-4) b4(2,-6) b5(2,-8) b6(2,-10) b7(2,-12) b8(2,-14) b9(2,-16) b10(2,-18) b11(2,-20) b12(2,-22) b13(2,-24) b14(2,-26) b15(2,-28) b16(2,-30) b17(2,-32)
F.SilkS:
  lines w0.254: -2.06,-0.2 -2.06,2.21 0.35,2.21 ; -1.76,-29.7 -1.1,-29.7 -1.1,-33.3 1.5,-33.3 1.5,-33.91 ; -1.76,-2.3 -1.1,-2.3 -1.1,1.3 1.5,1.3 1.5,1.91 ; 2.5,-33.91 2.5,-33.3 3.1,-33.3 3.1,-28 3.76,-28 ; 2.5,1.91 2.5,1.3 3.1,1.3 3.1,-4 3.76,-4 ; 3.1,-29.7 3.76,-29.7 ; 3.1,-2.3 3.76,-2.3 ; -1.76,-33.91 3.76,-33.91 3.76,1.91 -1.76,1.91 -1.76,-33.91
Top Assembly:
  lines w0.254: -1.65,-0.5 -0.943,0 -1.65,0.5 ; -1.65,-33.8 3.65,-33.8 3.65,1.8 -1.65,1.8 -1.65,-33.8
  text "'.Designator'" at 3.79,-20.047 h1
Top Courtyard:
  lines w0.254: -2.15,-34.3 4.15,-34.3 4.15,2.31 -2.15,2.31 -2.15,-34.3
Top Designator:
  text ".Designator" at -6.618,-16.503 h1.52